# Altium schematic symbol library Passives_linked.SchLib: 7 symbols
Pins are listed as number, name and electrical type; pins without a type are passive.

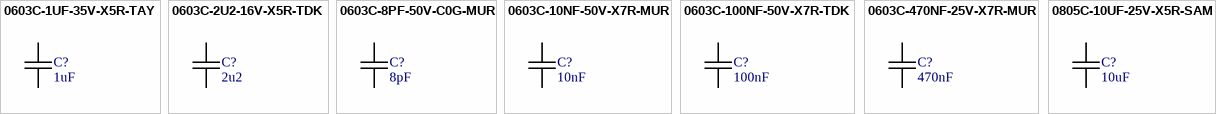
[diagram p0: symbols 0603C-1UF-35V-X5R-TAY to 0805C-10UF-25V-X5R-SAM]

## 0603C-1UF-35V-X5R-TAY
designator C?, comment 1uF
CAPACITOR 0603 CERAMIC; Manufacturer Part Number: GMK107BJ105KA-T; Manufacturer: Taiyo Yuden; Reel: C92; Supplier 1: Digi-Key; Supplier Part Number 1: 587-1437-1-ND
footprint 0603C-GENERIC (CAPACITOR 0603)
pins: 1, 2

## 0603C-2U2-16V-X5R-TDK
designator C?, comment 2u2
CAPACITOR 0603 CERAMIC; Manufacturer: TDK Corporation; Manufacturer Part Number: C1608X5R1A225K; Reel: C11; Supplier 1: Digi-Key; Supplier Part Number 1: 445-5157-1-ND
footprint 0603C-2U2 (CAPACITOR 0603)
pins: 1, 2

## 0603C-8PF-50V-C0G-MUR
designator C?, comment 8pF
CAPACITOR 0603 CERAMIC; Reel: C2; Supplier 1: Digi-Key; Supplier Part Number 1: 490-9670-1-ND
footprint 0603C-GENERIC (CAPACITOR 0805)
pins: 1, 2

## 0603C-10NF-50V-X7R-MUR
designator C?, comment 10nF
CAPACITOR 0603 CERAMIC; Manufacturer Part Number: GRM188R71H103KA01D; Manufacturer: Murata Electronics North America; Reel: C22; Supplier 1: Digi-Key; Supplier Part Number 1: 490-1512-1-ND
footprint 0603C-GENERIC (CAPACITOR 0603)
pins: 1, 2

## 0603C-100NF-50V-X7R-TDK
designator C?, comment 100nF
CAPACITOR 0603 CERAMIC; Manufacturer Part Number: C1608X7R1H103K; Manufacturer: TDK Corporation; Temperature Coefficient: X7R; Tolerance: ±10%; Voltage - Rated: 50V; Capacitance: 10000pF; Reel: C68; RoHS: RoHS Compliant; Lead Spacing: -; Package / Case: 0603 (1608 metric); Features: General Purpose; Packaging: Tape & Reel (TR); Thickness: 0.80mm; Operating Temperature: -55°C ~ 125°C; Mounting Type: Surface Mount, MLCC; Category: Capacitors; Supplier 1: Digi-Key; Supplier Part Number 1: 445-1311-1-ND
footprint 0603C-GENERIC (CAPACITOR 0805)
pins: 1, 2

## 0603C-470NF-25V-X7R-MUR
designator C?, comment 470nF
CAPACITOR 0603 CERAMIC; Manufacturer: Murata Electronics North America; Manufacturer Part Number: GRM188R71E474KA12D; Reel: C14; Temperature Coefficient: X7R; Capacitance: 0.47µF; Voltage - Rated: 25V; Tolerance: ±10%; RoHS: RoHS Compliant; Features: General Purpose; Operating Temperature: -55°C ~ 125°C; Packaging: Tape & Reel (TR); Thickness: 0.80mm; Mounting Type: Surface Mount, MLCC; Lead Spacing: -; Category: Capacitors; Package / Case: 0603 (1608 metric); Supplier: Digi-Key; Supplier Part Number: 490-3291-2-ND; Supplier 1: Digi-Key; Supplier Part Number 1: 490-3291-1-ND
footprint 0603C-GENERIC (CAPACITOR 0805)
pins: 1, 2

## 0805C-10UF-25V-X5R-SAM
designator C?, comment 10uF
CAPACITOR 0805 CERAMIC; Reel: C19; Supplier 1: Digi-Key; Supplier Part Number 1: 1276-2397-1-ND
footprint 0805C-GENERIC (CAPACITOR 0805)
pins: 1, 2